# Altium footprint library ANT_868MHZ_ANT-868-CHP.PcbLib: 1 footprints
Each footprint in its own frame and in the unit in brackets; x right, y up, seen from the top. Pads: shape width x height; smd on the part's side, far side on the other; paste and mask are expansions set on the pad; w line width, h text height; cw(c..) or ccw(c..) is an arc to the next point about the centre after c.
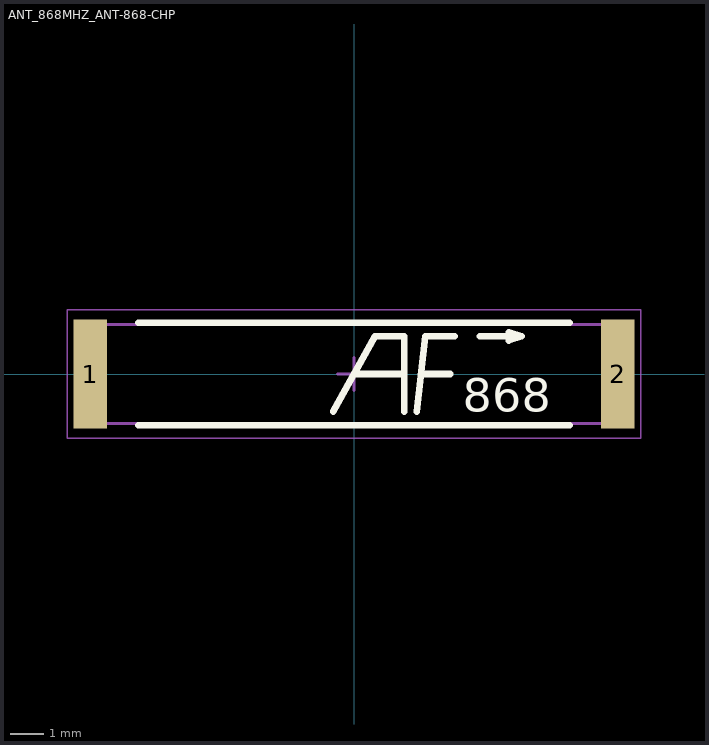
[diagram p0: the footprint, top view; thin cyan lines are the x and y axes]

## ANT_868MHZ_ANT-868-CHP [mil]
height 66.93
pads (2):
  rect 40x130 smd: 1(-315,0) 2(315,0)
Top Overlay:
  lines w7.87: -257.87,-61.06 257.87,-61.06 ; -257.87,61.06 257.87,61.06 ; -25,-45 25,45 60,45 60,-45 ; 0,0 60,0 ; 75,-45 85,45 120,45 ; 80,0 115,0 ; 150,45 200,45 ; 200,45 185,50 185,40 200,45
  text "868" at 130,-45 h40
Mechanical 13:
  lines w3.94: -314.96,-59.06 314.96,-59.06 314.96,59.06 -314.96,59.06 -314.96,-59.06
Mechanical 15:
  lines w1.97: -342.52,-76.77 342.52,-76.77 342.52,76.77 -342.52,76.77 -342.52,-76.77
  lines w3.94: -19.68,0 19.68,0 ; 0,-19.68 0,19.68
3D body: height 66.93, standoff 0, extent 275.59,-59.06 314.96,59.06
3D body: height 66.93, standoff 0, extent -314.96,-59.06 -275.59,59.06
3D body: height 66.93, standoff 0, extent -275.59,-59.06 275.59,59.06